# Altium schematic symbol library CMF1.1111.12.SchLib: 1 symbol
Pins are listed as number, name and electrical type; pins without a type are passive.

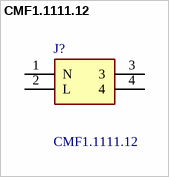
[diagram p0: symbol CMF1.1111.12]

## CMF1.1111.12
designator J?
CAD-model shows appliance inlet with PCB-terminals only, with line switch marking 0/1, snap-in mounting on PCB and fixation with screw to the centre position from the top, with rear-side insulation cover.; Manufacturer_Name: SCHURTER; Geometry.Height: 18mm; Manufacturer_Part_Number: CMF1.1111.12; Mouser Part Number: 693-CMF1.1111.12; Mouser Price/Stock: https://www.mouser.co.uk/ProductDetail/Schurter/CMF1111112?qs=%2F0Eb3QIYuIbNncoXboECMA%3D%3D; Arrow Part Number: *; Arrow Price/Stock: *; Datasheet Link: https://www.schurter.com/en/datasheet/typ_CMF1.pdf
footprint CMF1111112
pins: 1 N, 2 L, 3, 4